# Altium footprint library bch-lib.PcbLib: 86 footprints (part 2 of 6)
Each footprint in its own frame and in the unit in brackets; x right, y up, seen from the top. Pads: shape width x height; smd on the part's side, far side on the other; paste and mask are expansions set on the pad; w line width, h text height; cw(c..) or ccw(c..) is an arc to the next point about the centre after c.
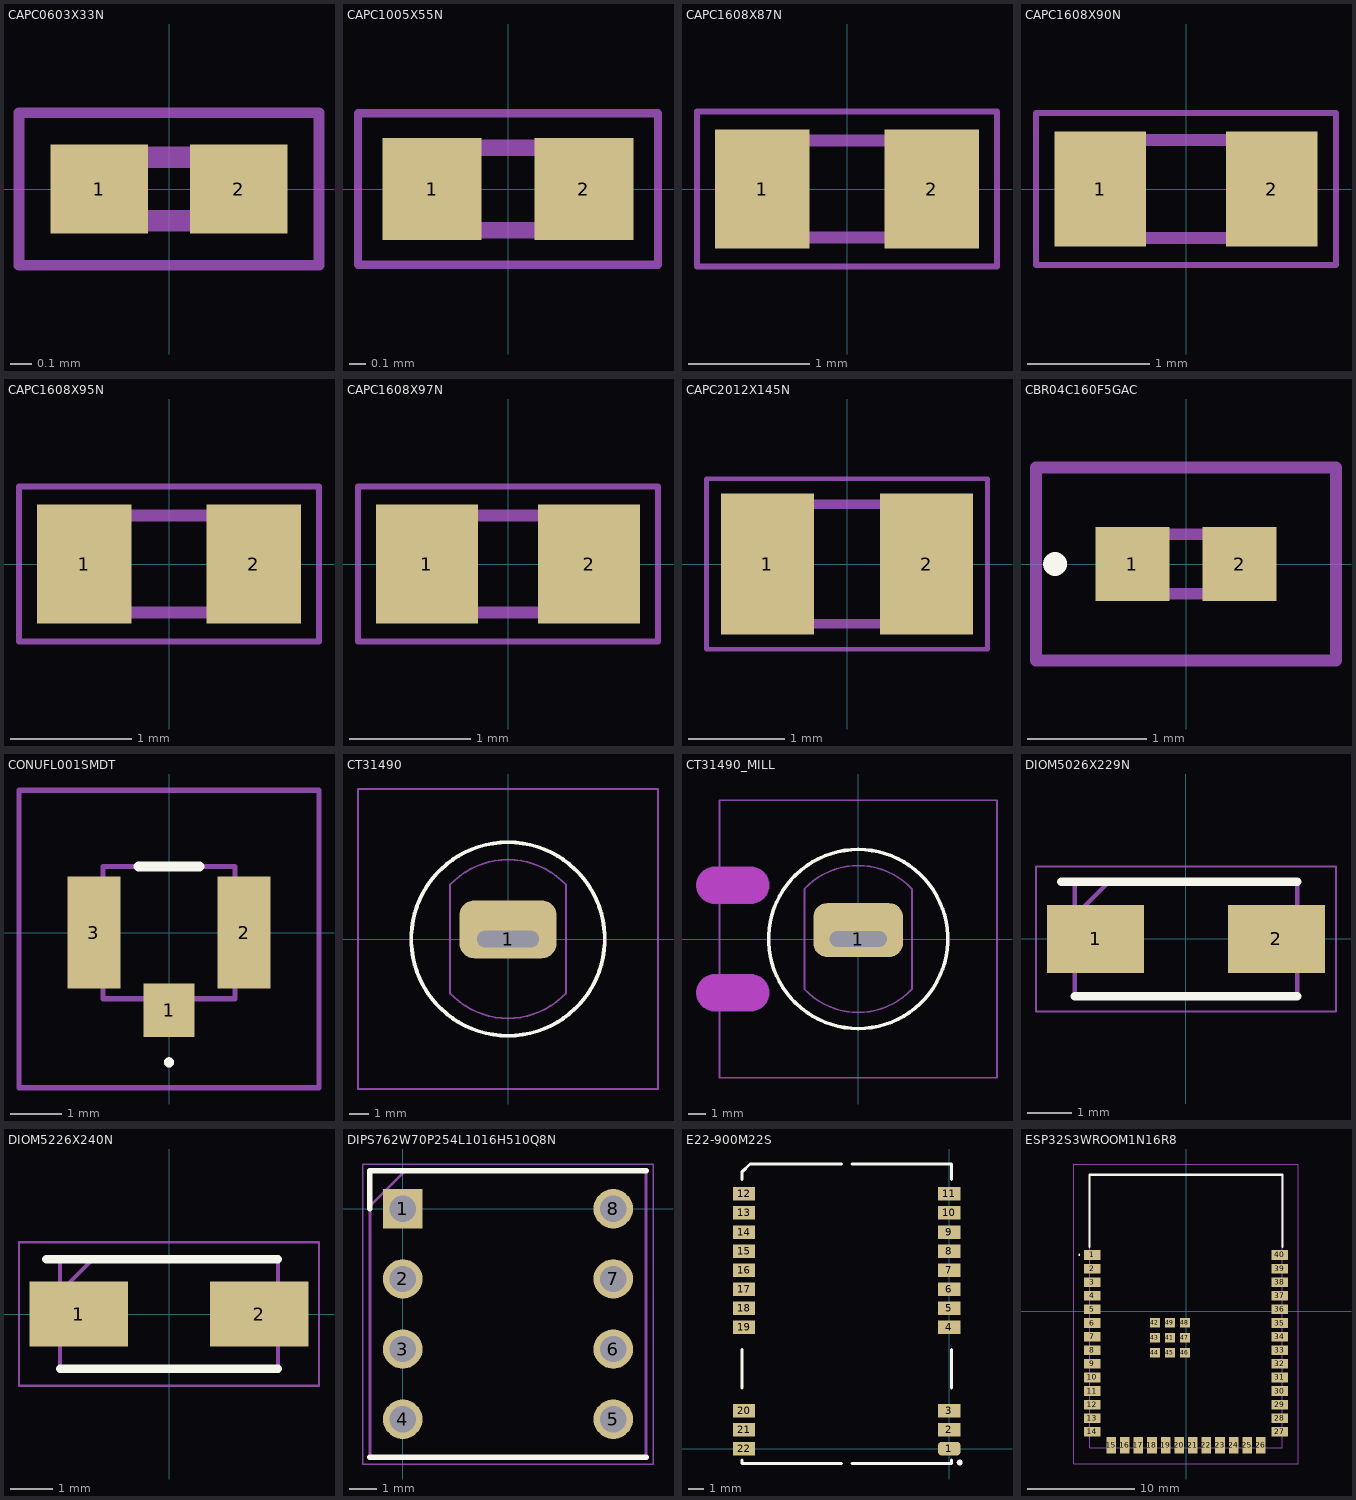
[diagram p1: the footprints below, top view; thin cyan lines are the x and y axes]

## CAPC0603X33N [mm]
pads (2):
  rect 0.46x0.42 smd: 1(-0.33,0) 2(0.33,0)
Mechanical 13:
  lines w0.1: -0.3,-0.15 0.3,-0.15 0.3,0.15 -0.3,0.15 -0.3,-0.15
Mechanical 15:
  lines w0.05: -0.71,-0.36 0.71,-0.36 0.71,0.36 -0.71,0.36 -0.71,-0.36
3D body "GRM033C81E104ME14D.stp": height 0.33, standoff 0, extent -0.3,-0.15 0.3,0.15

## CAPC1005X55N [mm]
pads (2):
  rect 0.6x0.62 smd: 1(-0.46,0) 2(0.46,0)
Mechanical 13:
  lines w0.1: -0.5,-0.25 -0.5,0.25 0.5,0.25 0.5,-0.25 -0.5,-0.25
Mechanical 15:
  lines w0.05: -0.91,-0.46 -0.91,0.46 0.91,0.46 0.91,-0.46 -0.91,-0.46
3D body "GCM1555C1H121JA16J.stp": height 0.55, standoff 0, extent -0.5,-0.25 0.5,0.25

## CAPC1608X87N [mm]
pads (2):
  rect 0.78x0.98 smd: 1(-0.7,0) 2(0.7,0)
Mechanical 13:
  lines w0.1: -0.8,-0.4 0.8,-0.4 0.8,0.4 -0.8,0.4 -0.8,-0.4
Mechanical 15:
  lines w0.05: -1.24,-0.64 1.24,-0.64 1.24,0.64 -1.24,0.64 -1.24,-0.64
3D body "C0603C102K4RECTU.stp": height 0.87, standoff 0, extent -0.87,-0.48 0.88,0.47

## CAPC1608X90N [mm]
pads (2):
  rect 0.75x0.94 smd: 1(-0.7,0) 2(0.7,0)
Mechanical 13:
  lines w0.1: -0.8,-0.4 0.8,-0.4 0.8,0.4 -0.8,0.4 -0.8,-0.4
Mechanical 15:
  lines w0.05: -1.225,-0.62 1.225,-0.62 1.225,0.62 -1.225,0.62 -1.225,-0.62
3D body "GRM188C81C225KA12D.stp": height 0.8, standoff 0, extent -0.8,-0.45 0.8,0.45

## CAPC1608X95N [mm]
pads (2):
  rect 0.78x0.98 smd: 1(-0.7,0) 2(0.7,0)
Mechanical 13:
  lines w0.1: -0.8,-0.4 0.8,-0.4 0.8,0.4 -0.8,0.4 -0.8,-0.4
Mechanical 15:
  lines w0.05: -1.24,-0.64 1.24,-0.64 1.24,0.64 -1.24,0.64 -1.24,-0.64
3D body "C0603C104K5RACTU7042.stp": height 0.87, standoff 0, extent -0.87,-0.48 0.88,0.47

## CAPC1608X97N [mm]
pads (2):
  rect 0.84x0.98 smd: 1(-0.67,0) 2(0.67,0)
Mechanical 13:
  lines w0.1: -0.8,-0.4 -0.8,0.4 0.8,0.4 0.8,-0.4 -0.8,-0.4
Mechanical 15:
  lines w0.05: -1.24,-0.64 -1.24,0.64 1.24,0.64 1.24,-0.64 -1.24,-0.64
3D body "VJ0603A120FXQCW1BC.stp": height 0.97, standoff 0, extent -0.8,-0.4 0.8,0.4

## CAPC2012X145N [mm]
pads (2):
  rect 0.97x1.47 smd: 1(-0.83,0) 2(0.83,0)
Mechanical 13:
  lines w0.1: -1,-0.625 1,-0.625 1,0.625 -1,0.625 -1,-0.625
Mechanical 15:
  lines w0.05: -1.465,-0.89 1.465,-0.89 1.465,0.89 -1.465,0.89 -1.465,-0.89
3D body "CL21A226MAYNNNE.stp": height 1.45, standoff 0, extent -1,-0.625 1,0.625

## CBR04C160F5GAC [mm]
pads (2):
  rect 0.62x0.62 smd: 1(-0.45,0) 2(0.45,0)
Top Overlay:
  lines w0.1: -1.1,-0.05 cw(c-1.1,0) -1.1,0.05 cw(c-1.1,0) -1.1,-0.05
Mechanical 13:
  lines w0.1: -0.5,-0.25 0.5,-0.25 0.5,0.25 -0.5,0.25 -0.5,-0.25
Mechanical 15:
  lines w0.1: -1.26,-0.81 1.26,-0.81 1.26,0.81 -1.26,0.81 -1.26,-0.81
3D body "CBR04C809C3GAC.stp": height 0.55, standoff 0, extent -0.52,-0.28 0.53,0.27

## CONUFL001SMDT [mm]
pads (3):
  rect 1x1.05 smd: 1(0,-1.525)
  rect 1.05x2.2 smd: 2(1.475,0) 3(-1.475,0)
Top Overlay:
  lines w0.1: 0,-2.6 cw(c0,-2.55) 0,-2.5 cw(c0,-2.55) 0,-2.6
  lines w0.2: -0.6,1.3 0.6,1.3
Mechanical 13:
  lines w0.1: -1.3,-1.3 1.3,-1.3 1.3,1.3 -1.3,1.3 -1.3,-1.3
Mechanical 15:
  lines w0.1: -2.95,-3.05 2.95,-3.05 2.95,2.8 -2.95,2.8 -2.95,-3.05
3D body "CONUFL001-SMD-T.stp": height 1.3, standoff 0, extent -1.5,-1.68 1.5,1.42

## CT31490 [mm]
pads (1):
  rrect50% 5x3 hole 0.85 slot 3.2 at 0 deg copper offset 0,0.5: 1(0,0)
Top Overlay:
  lines w0.2: 0,-5 cw(c0,0) 0,5 cw(c0,0) 0,-5
Mechanical 13:
  lines w0.1: 0,-5 cw(c0,0) 0,5 cw(c0,0) 0,-5
Mechanical 15:
  lines w0.1: -7.75,-7.75 7.75,-7.75 7.75,7.75 -7.75,7.75 -7.75,-7.75
Plexi Drill:
  lines w0.1: -3,-2.795 ccw(c0,0) 3,-2.795 3,2.795 ccw(c0,0) -3,2.795 -3,-2.795
3D body "CT3149-0.stp": height 23.88, standoff -9.42, extent -6.725,-6.725 6.725,6.725

## CT31490_MILL [mm]
pads (1):
  rrect50% 5x3 hole 0.85 slot 3.2 at 0 deg copper offset 0,0.5: 1(0,0)
Top Overlay:
  lines w0.2: 0,-5 cw(c0,0) 0,5 cw(c0,0) 0,-5
Keep-Out Layer:
  board cut-out: -8,2 -8.132,2 -8.386,2.068 -8.614,2.199 -8.801,2.386 -8.932,2.614 -9,2.868 -9,3.132 -8.932,3.386 -8.801,3.614 -8.614,3.801 -8.386,3.932 -8.132,4 -8,4 -6,4 -5.901,4 -5.708,3.962 -5.526,3.887 -5.362,3.777 -5.223,3.638 -5.113,3.474 -5.038,3.292 -5,3.099 -5,3 -5,2.901 -5.038,2.708 -5.113,2.526 -5.223,2.362 -5.362,2.223 -5.526,2.113 -5.708,2.038 -5.901,2 -6,2
  board cut-out: -8,-2 -8.132,-2 -8.386,-2.068 -8.614,-2.199 -8.801,-2.386 -8.932,-2.614 -9,-2.868 -9,-3.132 -8.932,-3.386 -8.801,-3.614 -8.614,-3.801 -8.386,-3.932 -8.132,-4 -8,-4 -6,-4 -5.901,-4 -5.708,-3.962 -5.526,-3.887 -5.362,-3.777 -5.223,-3.638 -5.113,-3.474 -5.038,-3.292 -5,-3.099 -5,-3 -5,-2.901 -5.038,-2.708 -5.113,-2.526 -5.223,-2.362 -5.362,-2.223 -5.526,-2.113 -5.708,-2.038 -5.901,-2 -6,-2
Mechanical 1:
  lines w0.1: -8,-4 cw(c-8,-3) -8,-2 -6,-2 cw(c-6,-3) -5,-3 cw(c-6,-3) -6,-4 -8,-4 ; -8,2 cw(c-8,3) -8,4 -6,4 cw(c-6,3) -5,3 cw(c-6,3) -6,2 -8,2
Mechanical 13:
  lines w0.1: 0,-5 cw(c0,0) 0,5 cw(c0,0) 0,-5
Mechanical 15:
  lines w0.1: -7.75,-7.75 7.75,-7.75 7.75,7.75 -7.75,7.75 -7.75,-7.75
Route Tool Path:
  lines w2: -8,-3 -6,-3 ; -8,3 -6,3
Plexi Drill:
  lines w0.1: -3,-2.795 ccw(c0,0) 3,-2.795 3,2.795 ccw(c0,0) -3,2.795 -3,-2.795
3D body "CT3149-0.stp": height 23.88, standoff -9.42, extent -6.725,-6.725 6.725,6.725

## DIOM5026X229N [mm]
pads (2):
  rect 2.2x1.55 smd: 1(-2.05,0) 2(2.05,0)
Top Overlay:
  lines w0.2: -2.825,1.298 2.52,1.298 ; -2.52,-1.298 2.52,-1.298
Mechanical 13:
  lines w0.1: -2.52,0.522 -1.745,1.298 ; -2.52,-1.298 2.52,-1.298 2.52,1.298 -2.52,1.298 -2.52,-1.298
Mechanical 15:
  lines w0.05: -3.4,-1.645 3.4,-1.645 3.4,1.645 -3.4,1.645 -3.4,-1.645
3D body "SMAJ58A.stp": height 2.29, standoff 0, extent -2.52,-1.298 2.52,1.298

## DIOM5226X240N [mm]
pads (2):
  rect 2.35x1.55 smd: 1(-2.15,0) 2(2.15,0)
Top Overlay:
  lines w0.2: -2.925,1.302 2.598,1.302 ; -2.598,-1.302 2.598,-1.302
Mechanical 13:
  lines w0.1: -2.598,0.528 -1.822,1.302 ; -2.598,-1.302 -2.598,1.302 2.598,1.302 2.598,-1.302 -2.598,-1.302
Mechanical 15:
  lines w0.05: -3.575,-1.71 -3.575,1.71 3.575,1.71 3.575,-1.71 -3.575,-1.71
3D body "S1M-13-F.stp": height 2.4, standoff 0, extent -2.598,-1.302 2.598,1.302

## DIPS762W70P254L1016H510Q8N [mm]
pads (8):
  rect 1.425x1.425 hole 0.95: 1(0,0)
  round 1.425 hole 0.95: 2(0,-2.54) 3(0,-5.08) 4(0,-7.62) 5(7.62,-7.62) 6(7.62,-5.08) 7(7.62,-2.54) 8(7.62,0)
Top Overlay:
  lines w0.2: -1.19,-8.99 8.81,-8.99 ; -1.19,0 -1.19,1.37 8.81,1.37
Mechanical 13:
  lines w0.1: -1.19,0.1 0.08,1.37 ; -1.19,-8.99 -1.19,1.37 8.81,1.37 8.81,-8.99 -1.19,-8.99
Mechanical 15:
  lines w0.05: -1.44,-9.24 -1.44,1.62 9.06,1.62 9.06,-9.24 -1.44,-9.24
3D body "1-2199298-2.stp": height 4.84, standoff -3.26, extent -1.19,-8.89 8.81,1.27

## E22-900M22S [mm]
pads (22):
  rrect50% 1.5x0.9 smd: 1(0,0)
  rect 1.5x0.9 smd: 2(0,1.27) 3(0,2.54) 4(0,8.11) 5(0,9.38) 6(0,10.65) 7(0,11.92) 8(0,13.19) 9(0,14.46) 10(0,15.73) 11(0,17) 12(-13.7,17) 13(-13.7,15.73) 14(-13.7,14.46) 15(-13.7,13.19) 16(-13.7,11.92) 17(-13.7,10.65) 18(-13.7,9.38) 19(-13.7,8.11) 20(-13.7,2.54) 21(-13.7,1.27) 22(-13.7,0)
Top Overlay:
  lines w0.2: -13.85,-0.75 -13.85,-1 -7.2,-1 ; -13.85,4.04 -13.85,6.61 ; -13.85,17.95 -13.85,18.45 -13.3,19 -7.2,19 ; -6.5,-1 0.15,-1 0.15,-0.75 ; -6.5,19 0.15,19 0.15,17.95 ; 0.15,4.04 0.15,6.61 ; 0.6,-0.925 cw(c0.7,-0.925) 0.8,-0.925 cw(c0.7,-0.925) 0.6,-0.925
3D body "E22-900M22S--3DModel-STEP-56544.STEP": height 3.1, standoff 0, extent -13.85,-1 0.15,19

## ESP32S3WROOM1N16R8 [mm]
pads (49):
  rect 1.5x0.9 smd: 1(-8.75,5.26) 2(-8.75,3.99) 3(-8.75,2.72) 4(-8.75,1.45) 5(-8.75,0.18) 6(-8.75,-1.09) 7(-8.75,-2.36) 8(-8.75,-3.63) 9(-8.75,-4.9) 10(-8.75,-6.17) 11(-8.75,-7.44) 12(-8.75,-8.71) 13(-8.75,-9.98) 14(-8.75,-11.25) 27(8.75,-11.25) 28(8.75,-9.98) 29(8.75,-8.71) 30(8.75,-7.44) 31(8.75,-6.17) 32(8.75,-4.9) 33(8.75,-3.63) 34(8.75,-2.36) 35(8.75,-1.09) 36(8.75,0.18) 37(8.75,1.45) 38(8.75,2.72) 39(8.75,3.99) 40(8.75,5.26)
  rect 0.9x1.5 smd: 15(-6.985,-12.5) 16(-5.715,-12.5) 17(-4.445,-12.5) 18(-3.175,-12.5) 19(-1.905,-12.5) 20(-0.635,-12.5) 21(0.635,-12.5) 22(1.905,-12.5) 23(3.175,-12.5) 24(4.445,-12.5) 25(5.715,-12.5) 26(6.985,-12.5)
  rect 0.9x0.9 smd: 41(-1.5,-2.46) 42(-2.9,-1.06) 43(-2.9,-2.46) 44(-2.9,-3.86) 45(-1.5,-3.86) 46(-0.1,-3.86) 47(-0.1,-2.46) 48(-0.1,-1.06) 49(-1.5,-1.06)
Top Overlay:
  lines w0.1: -10,5.26 cw(c-9.95,5.26) -9.9,5.26 cw(c-9.95,5.26) -10,5.26
  lines w0.2: -9,6 -9,12.75 9,12.75 9,6
Mechanical 13:
  lines w0.1: -9,-12.75 9,-12.75 9,12.75 -9,12.75 -9,-12.75
Mechanical 15:
  lines w0.1: -10.5,-14.25 10.5,-14.25 10.5,13.75 -10.5,13.75 -10.5,-14.25
3D body "ESP32-S3-WROOM-1-N16R8.stp": height 3.25, standoff 0, extent -9,-12.75 9,12.75